# EAGLE library part ATA6561-G? (library micro-Microchip-CANbus)
ATA6561 The ATA6560/1 is a high-speed CAN transceiver that provides an interface between a Controller Area Network (CAN) protocol controller and the physical two-wire CAN bus. The transceiver is designed for high-speed (up to 5Mbps) CAN applications in the automotive industry, providing differential transmit and receive capability to (a microcontroller with) a CAN protocol controller. It offers improved Electromagnetic Compatibility (EMC) and ESD performance, as well as features such as: Ideal passive behavior to the CAN bus when the supply voltage is off Direct interfacing to microcontrollers with supply voltages from 3V to 5V (ATA6561) Three operating modes, together with the dedicated fail-safe features, make the ATA6560/1 an excellent choice for all types of high-speed CAN networks, especially in nodes requiring a Low-Power mode with wake-up capability via the CAN bus.
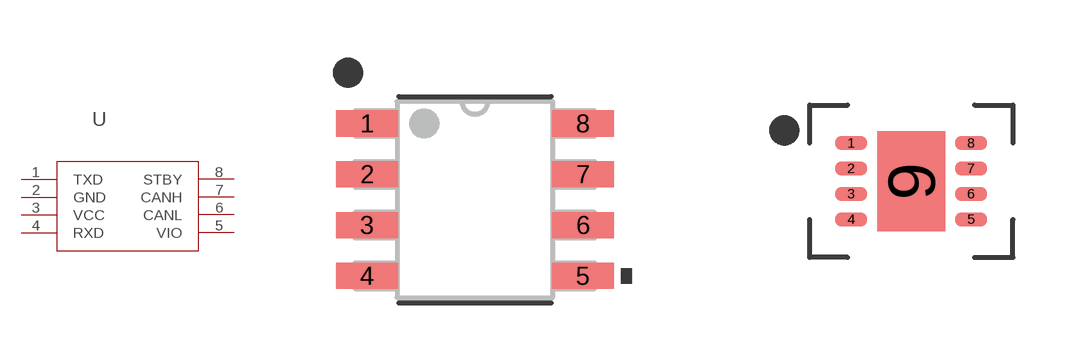
[diagram p0: symbol with the pads of SOIC8-N_MC_OA; footprints SOIC8-N_MC_OA, VDFN8-3X3_MC_Q8B]

Designator prefix U

## ATA6561-GA (MPN: ATA6561-GAQW-N)  [SOIC8-N_MC_OA]
1  TXD  pas
2  GND  pas
3  VCC  pwr
4  RXD  pas
5  VIO  pas
6  CANL  pas
7  CANH  pas
8  STBY  pas

## ATA6561-GB (MPN: ATA6561-GBQW-N)  [VDFN8-3X3_MC_Q8B]
1  TXD  pas
2  GND  pas
3  VCC  pwr
4  RXD  pas
5  VIO  pas
6  CANL  pas
7  CANH  pas
8  STBY  pas
9  GND  pas

## Footprint SOIC8-N_MC_OA (pad centres in mm)
smd 1.55 x 0.65: 1 -2.7,1.905; 2 -2.7,0.635; 3 -2.7,-0.635; 4 -2.7,-1.905; 5 2.7,-1.905; 6 2.7,-0.635; 7 2.7,0.635; 8 2.7,1.905

## Footprint VDFN8-3X3_MC_Q8B (pad centres in mm)
smd 0.8 x 0.35: 1 -1.5,0.953; 2 -1.5,0.318; 3 -1.5,-0.318; 4 -1.5,-0.953; 5 1.5,-0.953; 6 1.5,-0.318; 7 1.5,0.318; 8 1.5,0.953
smd 1.7 x 2.5: 9 0,0